# EAGLE library part STCS1PHR (library LED_LoRa)
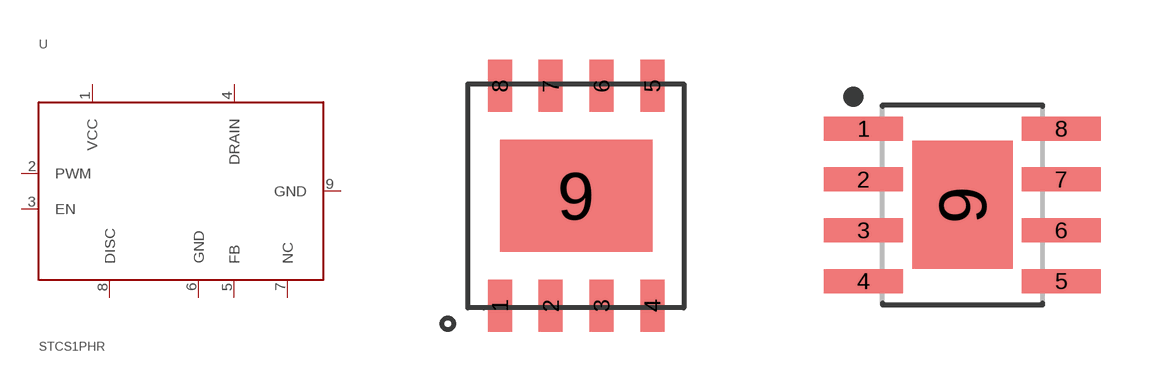
[diagram p0: symbol with the pads of POWER-SO-8; footprints POWER-SO-8, SOIC127P600X170-9T251X320N]

Designator prefix -

## STCS1PHRA  [POWER-SO-8]
1  VCC
2  PWM  in
3  EN  in
4  DRAIN
5  FB
6  GND
7  NC
8  DISC  out
9  GND

## STCS1PHR3D_AUTO  [SOIC127P600X170-9T251X320N]
Pads as for POWER-SO-8

## Footprint POWER-SO-8 (pad centres in mm)
smd 0.6 x 1.3: 1 0,-2.745; 2 1.27,-2.745; 3 2.54,-2.745; 4 3.81,-2.745; 5 3.81,2.745; 6 2.54,2.745; 7 1.27,2.745; 8 0,2.745
smd 3.81 x 2.79: 9 1.905,0

## Footprint SOIC127P600X170-9T251X320N (pad centres in mm)
8-SOIC, 1.27 mm pitch, 6.00 mm span, 4.90 X 3.90 X 1.70 mm body, 3.20 X 2.51 mm thermal pad 8-pin SOIC package with 1.27 mm pitch, 6.00 mm span with body size 4.90 X 3.90 X 1.70 mm and thermal pad size 3.20 X 2.51 mm
smd 1.968 x 0.599: 1 -2.473,1.905; 2 -2.473,0.635; 3 -2.473,-0.635; 4 -2.473,-1.905; 5 2.473,-1.905; 6 2.473,-0.635; 7 2.473,0.635; 8 2.473,1.905
smd 2.51 x 3.2: 9 0,0